# Altium schematic symbol library Transient Voltage Suppressors.SchLib: 3 symbols
Pins are listed as number, name and electrical type; pins without a type are passive.

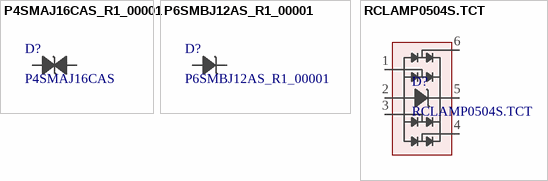
[diagram p0: symbols P4SMAJ16CAS_R1_00001 to RCLAMP0504S.TCT]

## P4SMAJ16CAS_R1_00001
designator D?, comment P4SMAJ16CAS
DIODE TVS 400W 16V DO214AC (SMA) SMT /; Manufacturer: Pan Jit; Manufacturer Part Number: P4SMAJ16CAS_R1_00001; Description: Surface Mount Transient Voltage; Direction: BI; Peak Pulse Current Max (Ippm): 15.3A; Designed: Ferdi; Supplier 1: Digikey; RoHS: Yes; Category: TVS Diodes; RoHS Compliant: Yes; Supplier Part Number 1: 3757-P4SMAJ16CAS_R1_00001CT-ND; Power - Peak Pulse: 400W; Operating Temperature: -55°C~+150°C; ComponentLink1Description: Datasheet; ComponentLink1URL: https://cdn.ozdisan.com/ETicaret_Dosya/642906_230525.pdf
footprint DO214AC
pins: 1 A, 2 B

## P6SMBJ12AS_R1_00001
designator D?
DIODE TVS 600W 12V DO214AA (SMB) SMT /; Manufacturer: Pan Jit; Designed: Ferdi; Direction: UNI; Supplier 1: Digi-Key; Manufacturer Part Number: P6SMBJ12AS_R1_00001; RoHS: No; Category: TVS Diodes; Supplier Part Number 1: 3757-P6SMBJ12AS_R1_00001CT-ND; ComponentLink1Description: Datasheet; ComponentLink1URL: https://cdn.ozdisan.com/ETicaret_Dosya/642916_144220.pdf
footprint DO214AA
pins: 1 A, 2 K

## RCLAMP0504S.TCT
designator D?
TVS DIODE 5V 25V SOT23-6; Manufacturer: Semtech; Direction: Unidirectional,Bidirectional; Number of Elements: 1; Capacitance: 3pF; Reverse Breakdown Voltage: 6V; Number of Bidirectional Channels: 4; Peak Pulse Power: 150W; Power Line Protection: Yes; Polarity: Unidirectional; Leakage Current: 3uA; Peak Pulse Current: 6A; Test Current: 1mA; Designed: Ferdi; Supplier 1: Digi-Key; Manufacturer Part Number: RCLAMP0504S.TCT; RoHS: Yes; Category: TVS Diodes; Stock 1: 159286; Pricing 1: 1=0,82, 10=0,674, 100=0,5242, 500=0,44428, 1000=0,36192 (USD); Mount: Surface Mount; Case/Package: SOT-23; Number of Pins: 6; Min Operating Temperature: -55°C; Max Operating Temperature: 125°C; Packaging: Tape and Reel; Reverse Standoff Voltage: 5V; Min Breakdown Voltage: 6V; Clamping Voltage: 25V; Working Voltage: 5V; Power Dissipation: 150W; Voltage Rating (DC): 5V; Operating Supply Voltage: 5V; Series: RailClamp®; Clamping Voltage-Max: 25V; Number of Unidirectional Channels: 4; Length: 2.9mm; Width: 1.6mm; Depth: 1.6mm; Radiation Hardening: No; Lead Free: Lead Free; RoHS Compliant: Yes; ComponentLink1URL: https://datasheet.ciiva.com/16500/rclamp0504s-16500571.pdf?src-supplier=Future+Electronics; ComponentLink1Description: https://datasheet.ciiva.com/16500/rclamp0504s-16500571.pdf?src-supplier=Future+Electronics; ComponentLink2URL: https://datasheet.ciiva.com/18065/getdatasheetpartid-149035-18065766.pdf?src-supplier=Verical; ComponentLink2Description: https://datasheet.ciiva.com/18065/getdatasheetpartid-149035-18065766.pdf?src-supplier=Verical; Supplier Part Number 1: RCLAMP0504SCT-ND
footprint SOT23-6
pins: 1, 2, 3, 4, 5, 6